# EAGLE library part 64901229522 (library Wurth_Elektronik_Electromechanic_Wire_to_Board_Connectors_rev15c)
WR-MPC4-4.20mm Male Dual Row Angled Header,12 pins=>Code : WR-MPC4_Stiftbuchse_2reihig_abgewinkelt_64901229522 <http://katalog.we-online.de/media/thumbs2/eican/thb_WR-MPC4_Stiftbuchse_2reihig_abgewinkelt_64901029522.jpg> Details see: http://katalog.we-online.de/en/em/649_0xx_295_22 Created 2014-06-06, Karrer Zheng 2014 (C) Würth Elektronik
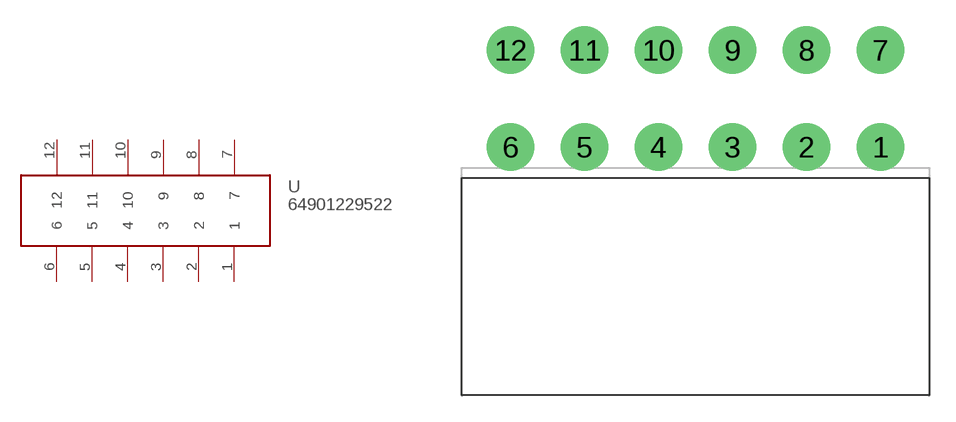
[diagram p294: symbol with the pads of 64901229522; footprint 64901229522]

Designator prefix -

## 64901229522  [64901229522]
1  1
2  2
3  3
4  4
5  5
6  6
7  7
8  8
9  9
10  10
11  11
12  12

## Footprint 64901229522 (pad centres in mm)
WR-MPC4-4.20mm Male Dual Row Angled Header,12 pins
drill 1.8: 1 10.095,-2.75; 2 5.895,-2.75; 3 1.695,-2.75; 4 -2.505,-2.75; 5 -6.705,-2.75; 6 -10.905,-2.75; 7 10.095,2.75; 8 5.895,2.75; 9 1.695,2.75; 10 -2.505,2.75; 11 -6.705,2.75; 12 -10.905,2.75